# EAGLE library part GPS-MAESTRO-A2200 (library SteveMarple)
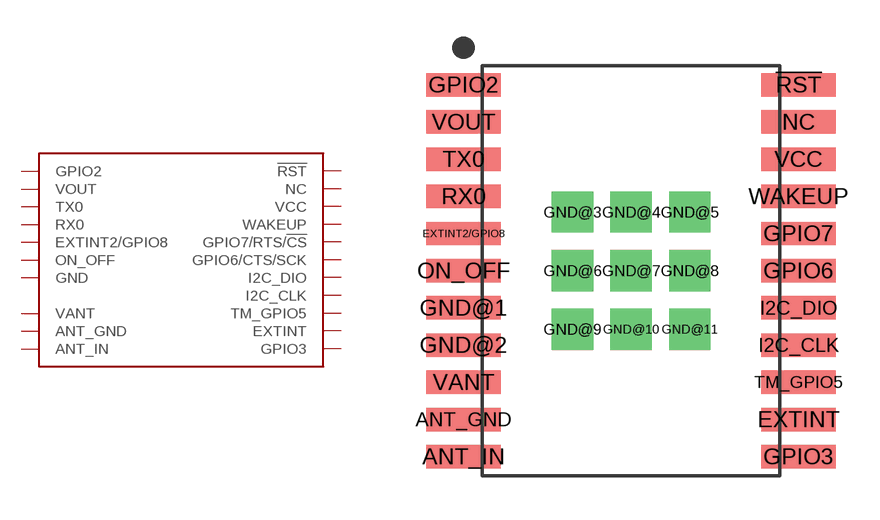
[diagram p24: symbol with the pads of GPS-MAESTRO-A2200; footprint GPS-MAESTRO-A2200]

Designator prefix GPS

## GPS-MAESTRO-A2200  [GPS-MAESTRO-A2200]
!RST  !RST  in
ANT_GND  ANT_GND  pwr
ANT_IN  ANT_IN
EXTINT  EXTINT
EXTINT2/GPIO8  EXTINT2/GPIO8
GND@1  GND  pwr
GND@2  GND  pwr
GND@3  GND  pwr
GND@4  GND  pwr
GND@5  GND  pwr
GND@6  GND  pwr
GND@7  GND  pwr
GND@8  GND  pwr
GND@9  GND  pwr
GND@10  GND  pwr
GND@11  GND  pwr
GPIO2  GPIO2
GPIO3  GPIO3
GPIO6  GPIO6/CTS/SCK  in
GPIO7  GPIO7/RTS/!CS  in
I2C_CLK  I2C_CLK  oc
I2C_DIO  I2C_DIO  oc
NC  NC  nc
ON_OFF  ON_OFF  in
RX0  RX0  in
TM_GPIO5  TM_GPIO5  out
TX0  TX0  out
VANT  VANT  in
VCC  VCC  pwr
VOUT  VOUT
WAKEUP  WAKEUP  out

## Footprint GPS-MAESTRO-A2200 (pad centres in mm)
Maestro A2200 GPS module
smd 2.54 x 0.8: !RST 5.715,6.35; ANT_GND -5.715,-5.08; ANT_IN -5.715,-6.35; EXTINT 5.715,-5.08; EXTINT2/GPIO8 -5.715,1.27; GND@1 -5.715,-1.27; GND@2 -5.715,-2.54; GPIO2 -5.715,6.35; GPIO3 5.715,-6.35; GPIO6 5.715,0; GPIO7 5.715,1.27; I2C_CLK 5.715,-2.54; I2C_DIO 5.715,-1.27; NC 5.715,5.08; ON_OFF -5.715,0; RX0 -5.715,2.54; TM_GPIO5 5.715,-3.81; TX0 -5.715,3.81; VANT -5.715,-3.81; VCC 5.715,3.81; VOUT -5.715,5.08; WAKEUP 5.715,2.54
drill 0.9 pad 1.2 square: GND@3 -2,2; GND@4 0,2; GND@5 2,2; GND@6 -2,0; GND@7 0,0; GND@8 2,0; GND@9 -2,-2; GND@10 0,-2; GND@11 2,-2